# Altium footprint library ph20x2.PcbLib: 1 footprints
Each footprint in its own frame and in the unit in brackets; x right, y up, seen from the top. Pads: shape width x height; smd on the part's side, far side on the other; paste and mask are expansions set on the pad; w line width, h text height; cw(c..) or ccw(c..) is an arc to the next point about the centre after c.
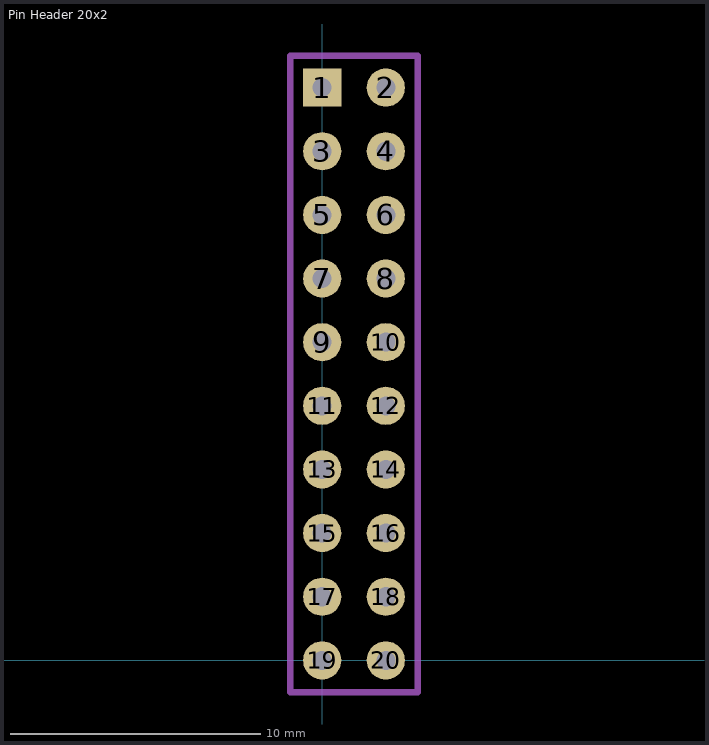
[diagram p0: the footprint, top view; thin cyan lines are the x and y axes]

## Pin Header 20x2 [mil]
pads (20):
  rect 60x60 hole 30: 1(0,900)
  round 60 hole 30: 2(100,900) 3(0,800) 4(100,800) 5(0,700) 6(100,700) 7(0,600) 8(100,600) 9(0,500) 10(100,500) 11(0,400) 12(100,400) 13(0,300) 14(100,300) 15(0,200) 16(100,200) 17(0,100) 18(100,100) 19(0,0) 20(100,0)
Mechanical 1:
  lines w10: -50,-50 -50,950 150,950 150,-50 -50,-50